# Altium footprint library SamacSys.PcbLib: 10 footprints
Each footprint in its own frame and in the unit in brackets; x right, y up, seen from the top. Pads: shape width x height; smd on the part's side, far side on the other; paste and mask are expansions set on the pad; w line width, h text height; cw(c..) or ccw(c..) is an arc to the next point about the centre after c.
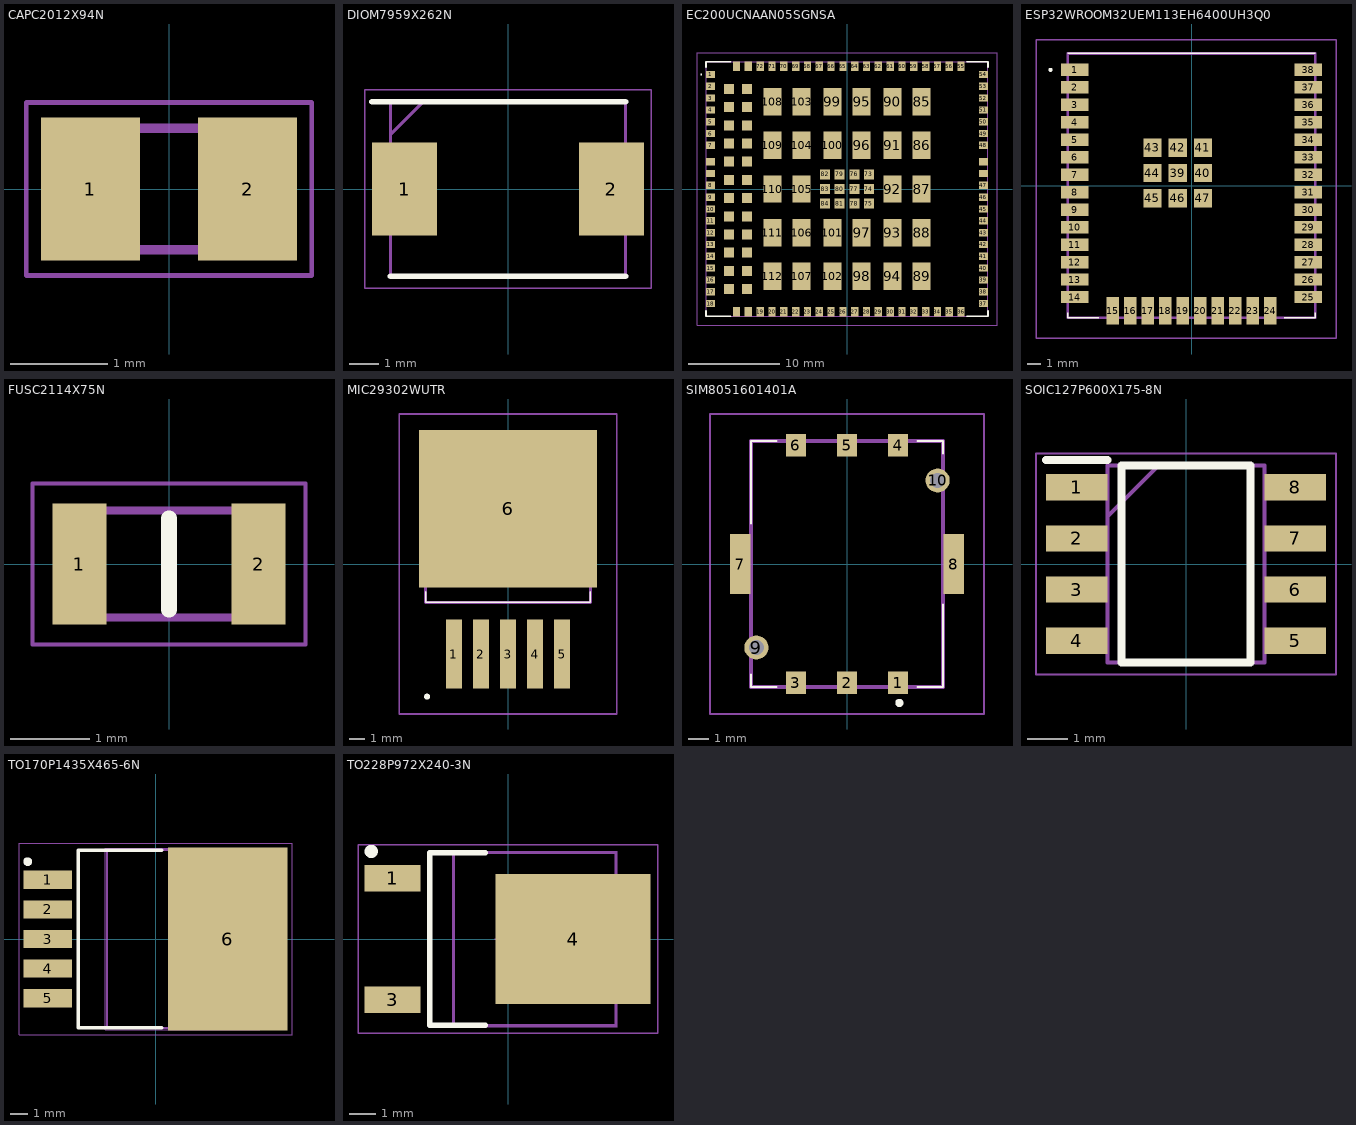
[diagram p0: the footprints below, top view; thin cyan lines are the x and y axes]

## CAPC2012X94N [mm]
pads (2):
  rect 1.02x1.47 smd: 1(-0.81,0) 2(0.81,0)
Mechanical 13:
  lines w0.1: -1.005,-0.625 1.005,-0.625 1.005,0.625 -1.005,0.625 -1.005,-0.625
Mechanical 15:
  lines w0.05: -1.47,-0.89 1.47,-0.89 1.47,0.89 -1.47,0.89 -1.47,-0.89
3D body "08055A150JAT2A.stp": height 0.94, standoff 0, extent -1.005,-0.625 1.005,0.625

## DIOM7959X262N [mm]
pads (2):
  rect 2.2x3.15 smd: 1(-3.5,0) 2(3.5,0)
Top Overlay:
  lines w0.2: -4.6,2.952 3.97,2.952 ; -3.97,-2.952 3.97,-2.952
Mechanical 13:
  lines w0.1: -3.97,1.852 -2.87,2.952 ; -3.97,-2.952 -3.97,2.952 3.97,2.952 3.97,-2.952 -3.97,-2.952
Mechanical 15:
  lines w0.05: -4.85,-3.36 -4.85,3.36 4.85,3.36 4.85,-3.36 -4.85,-3.36
3D body "SS34+.stp": height 2.62, standoff 0, extent -3.97,-2.953 3.97,2.953

## EC200UCNAAN05SGNSA [mm]
pads (144):
  rect 1x0.8 smd: 1(-15,12.6) 2(-15,11.3) 3(-15,10) 4(-15,8.7) 5(-15,7.4) 6(-15,6.1) 7(-15,4.8) 8(-15,0.4) 9(-15,-0.9) 10(-15,-2.2) 11(-15,-3.5) 12(-15,-4.8) 13(-15,-6.1) 14(-15,-7.4) 15(-15,-8.7) 16(-15,-10) 17(-15,-11.3) 18(-15,-12.6) 37(15,-12.6) 38(15,-11.3) 39(15,-10) 40(15,-8.7) 41(15,-7.4) 42(15,-6.1) 43(15,-4.8) 44(15,-3.5) 45(15,-2.2) 46(15,-0.9) 47(15,0.4) 48(15,4.8) 49(15,6.1) 50(15,7.4) 51(15,8.7) 52(15,10) 53(15,11.3) 54(15,12.6) 141(-15,3) 142(-15,1.7) 143(15,1.7) 144(15,3)
  rect 0.8x1 smd: 19(-9.55,-13.5) 20(-8.25,-13.5) 21(-6.95,-13.5) 22(-5.65,-13.5) 23(-4.35,-13.5) 24(-3.05,-13.5) 25(-1.75,-13.5) 26(-0.45,-13.5) 27(0.85,-13.5) 28(2.15,-13.5) 29(3.45,-13.5) 30(4.75,-13.5) 31(6.05,-13.5) 32(7.35,-13.5) 33(8.65,-13.5) 34(9.95,-13.5) 35(11.25,-13.5) 36(12.55,-13.5) 55(12.55,13.5) 56(11.25,13.5) 57(9.95,13.5) 58(8.65,13.5) 59(7.35,13.5) 60(6.05,13.5) 61(4.75,13.5) 62(3.45,13.5) 63(2.15,13.5) 64(0.85,13.5) 65(-0.45,13.5) 66(-1.75,13.5) 67(-3.05,13.5) 68(-4.35,13.5) 69(-5.65,13.5) 70(-6.95,13.5) 71(-8.25,13.5) 72(-9.55,13.5) 113(-10.85,13.5) 114(-12.15,13.5) 115(-10.85,-13.5) 116(-12.15,-13.5)
  rect 1.1x1.1 smd: 73(2.4,1.6) 74(2.4,0) 75(2.4,-1.6) 76(0.8,1.6) 77(0.8,0) 78(0.8,-1.6) 79(-0.8,1.6) 80(-0.8,0) 81(-0.8,-1.6) 82(-2.4,1.6) 83(-2.4,0) 84(-2.4,-1.6) 117(-11,11) 118(-11,9) 119(-11,7) 120(-11,5) 121(-11,3) 122(-11,1) 123(-11,-1) 124(-11,-3) 125(-11,-5) 126(-11,-7) 127(-11,-9) 128(-11,-11) 129(-13,11) 130(-13,9) 131(-13,7) 132(-13,5) 133(-13,3) 134(-13,1) 135(-13,-1) 136(-13,-3) 137(-13,-5) 138(-13,-7) 139(-13,-9) 140(-13,-11)
  rect 2x3 smd: 85(8.2,9.6) 86(8.2,4.8) 87(8.2,0) 88(8.2,-4.8) 89(8.2,-9.6) 90(5,9.6) 91(5,4.8) 92(5,0) 93(5,-4.8) 94(5,-9.6) 95(1.6,9.6) 96(1.6,4.8) 97(1.6,-4.8) 98(1.6,-9.6) 99(-1.6,9.6) 100(-1.6,4.8) 101(-1.6,-4.8) 102(-1.6,-9.6) 103(-5,9.6) 104(-5,4.8) 105(-5,0) 106(-5,-4.8) 107(-5,-9.6) 108(-8.2,9.6) 109(-8.2,4.8) 110(-8.2,0) 111(-8.2,-4.8) 112(-8.2,-9.6)
Top Overlay:
  lines w0.1: -16.1,12.6 cw(c-16.05,12.6) -16,12.6 cw(c-16.05,12.6) -16.1,12.6
  lines w0.2: -15.5,-13.4 -15.5,-14 -12.8,-14 ; -15.5,13.4 -15.5,14 -12.8,14 ; 13.2,-14 15.5,-14 15.5,-13.4 ; 13.2,14 15.5,14 15.5,13.4
Mechanical 13:
  lines w0.1: -15.5,-14 15.5,-14 15.5,14 -15.5,14 -15.5,-14
Mechanical 15:
  lines w0.1: -16.5,-15 -16.5,15 16.5,15 16.5,-15 -16.5,-15
3D body "EC200UCNAA-N05-SGNSA.stp": height 2.7, standoff 0, extent -15.5,-14 15.5,14

## ESP32WROOM32UEM113EH6400UH3Q0 [mm]
pads (47):
  rect 2x0.9 smd: 1(-8.5,8.41) 2(-8.5,7.14) 3(-8.5,5.87) 4(-8.5,4.6) 5(-8.5,3.33) 6(-8.5,2.06) 7(-8.5,0.79) 8(-8.5,-0.48) 9(-8.5,-1.75) 10(-8.5,-3.02) 11(-8.5,-4.29) 12(-8.5,-5.56) 13(-8.5,-6.83) 14(-8.5,-8.1) 25(8.5,-8.1) 26(8.5,-6.83) 27(8.5,-5.56) 28(8.5,-4.29) 29(8.5,-3.02) 30(8.5,-1.75) 31(8.5,-0.48) 32(8.5,0.79) 33(8.5,2.06) 34(8.5,3.33) 35(8.5,4.6) 36(8.5,5.87) 37(8.5,7.14) 38(8.5,8.41)
  rect 0.9x2 smd: 15(-5.715,-9.1) 16(-4.445,-9.1) 17(-3.175,-9.1) 18(-1.905,-9.1) 19(-0.635,-9.1) 20(0.635,-9.1) 21(1.905,-9.1) 22(3.175,-9.1) 23(4.445,-9.1) 24(5.715,-9.1)
  rect 1.33x1.33 smd: 39(-1,0.91) 40(0.835,0.91) 41(0.835,2.745) 42(-1,2.745) 43(-2.835,2.745) 44(-2.835,0.91) 45(-2.835,-0.925) 46(-1,-0.925) 47(0.835,-0.925)
Top Overlay:
  lines w0.1: -9,-9.6 -6.75,-9.6 -9,-9.6 ; -9,-9.6 -9,-9.25 -9,-9.6 ; 9,-9.6 9,-9.25 9,-9.6 ; 9,-9.6 6.75,-9.6 9,-9.6 ; -9,9.6 9,9.6 -9,9.6
  lines w0.2: -10.3,8.41 cw(c-10.25,8.41) -10.2,8.41 ; -10.3,8.41 ccw(c-10.25,8.41) -10.2,8.41 ; -10.3,8.41 cw(c-10.25,8.41) -10.2,8.41
Mechanical 13:
  lines w0.2: -9,-9.6 -9,9.6 9,9.6 9,-9.6 -9,-9.6
Mechanical 15:
  lines w0.1: -11.3,-11.1 -11.3,10.6 10.5,10.6 10.5,-11.1 -11.3,-11.1
3D body "ESP32-WROOM-32UE_M113EH6400UH3Q0_.stp": height 1.6, standoff 1.6, extent 0,3.15 0,3.15

## FUSC2114X75N [mm]
pads (2):
  rect 0.68x1.52 smd: 1(-1.125,0) 2(1.125,0)
Top Overlay:
  lines w0.2: 0,-0.575 0,0.575
Mechanical 13:
  lines w0.1: -1.05,-0.675 -1.05,0.675 1.05,0.675 1.05,-0.675 -1.05,-0.675
Mechanical 15:
  lines w0.05: -1.715,-1.01 -1.715,1.01 1.715,1.01 1.715,-1.01 -1.715,-1.01
3D body "0805L035.stp": height 0.75, standoff 0, extent -1.05,-0.675 1.05,0.675

## MIC29302WUTR [mm]
pads (6):
  rect 1.02x4.318 smd: 1(-3.4,-5.664) 2(-1.7,-5.664) 3(0,-5.664) 4(1.7,-5.664) 5(3.4,-5.664)
  rect 11.176x9.906 smd: 6(0,3.482)
Top Overlay:
  lines w0.1: -5.181,-1.743 -5.181,-2.412 5.181,-2.412 5.181,-1.743
  lines w0.2: -5.001,-8.343 cw(c-5.091,-8.343) -5.181,-8.343 cw(c-5.09,-8.343) -4.999,-8.343
Mechanical 13:
  lines w0.2: -5.181,-2.412 -5.181,6.757 5.181,6.757 5.181,-2.412 -5.181,-2.412
Mechanical 15:
  lines w0.1: -6.842,-9.433 -6.842,9.433 6.842,9.433 6.842,-9.433 -6.842,-9.433
3D body "MIC29302WU-TR.stp": height 4.42, standoff 0, extent -5.029,-7.306 5.029,7.299

## SIM8051601401A [mm]
pads (10):
  rect 1x1.1 smd: 1(2.54,-5.9) 2(0,-5.9) 3(-2.54,-5.9) 4(2.54,5.9) 5(0,5.9) 6(-2.54,5.9)
  rect 1x3 smd: 7(-5.3,0) 8(5.3,0)
  round 1.2 hole 0.75: 9(-4.5,-4.15) 10(4.5,4.15)
Top Overlay:
  lines w0.1: -4.77,-5.5 -4.77,-6.1 -3.5,-6.1 ; -4.77,2 -4.77,6.1 -3.5,6.1 ; 3.5,-6.1 4.77,-6.1 4.77,-2 ; 3.5,6.1 4.77,6.1 4.77,5.5
  lines w0.2: 2.5,-6.9 ccw(c2.6,-6.9) 2.7,-6.9 ccw(c2.6,-6.9) 2.5,-6.9
Mechanical 13:
  lines w0.2: -4.77,-6.1 -4.77,6.1 4.77,6.1 4.77,-6.1 -4.77,-6.1
Mechanical 15:
  lines w0.1: -6.8,-7.45 -6.8,7.45 6.8,7.45 6.8,-7.45 -6.8,-7.45
3D body "SIM8051-6-0-14-01-A.stp": height 1.75, standoff 0, extent -5.42,-6.102 5.42,6.098

## SOIC127P600X175-8N [mm]
pads (8):
  rect 1.525x0.65 smd: 1(-2.712,1.905) 2(-2.712,0.635) 3(-2.712,-0.635) 4(-2.712,-1.905) 5(2.712,-1.905) 6(2.712,-0.635) 7(2.712,0.635) 8(2.712,1.905)
Top Overlay:
  lines w0.2: -3.475,2.58 -1.95,2.58 ; -1.6,-2.45 1.6,-2.45 1.6,2.45 -1.6,2.45 -1.6,-2.45
Mechanical 13:
  lines w0.1: -1.95,1.18 -0.68,2.45 ; -1.95,-2.45 1.95,-2.45 1.95,2.45 -1.95,2.45 -1.95,-2.45
Mechanical 15:
  lines w0.05: -3.725,-2.75 3.725,-2.75 3.725,2.75 -3.725,2.75 -3.725,-2.75
3D body "NE555DR.stp": height 1.75, standoff 0, extent -3,-2.45 3,2.45

## TO170P1435X465-6N [mm]
pads (6):
  rect 2.8x1.05 smd: 1(-6.2,3.4) 2(-6.2,1.7) 3(-6.2,0) 4(-6.2,-1.7) 5(-6.2,-3.4)
  rect 6.85x10.5 smd: 6(4.15,0)
Top Overlay:
  circle w0.25: c-7.35,4.45 r0.125
  lines w0.2: 0.35,-5.1 -4.45,-5.1 -4.45,5.1 0.35,5.1
Mechanical 13:
  lines w0.1: 5.905,-5.112 6.324,-5.112 7.175,-4.17 7.175,4.17 6.324,5.112 5.905,5.112 ; 5.905,-5.112 5.905,5.112 ; 5.905,-5.112 -2.785,-5.112 -2.785,5.112 5.905,5.112
Mechanical 15:
  lines w0.001: -2.885,-5.205 -2.885,5.205 6.005,5.205 6.005,-5.205 -2.885,-5.205
  lines w0.05: -7.85,-5.5 -7.85,5.5 7.85,5.5 7.85,-5.5 -7.85,-5.5
3D body "LM2596S-3.3_NOPB.stp": height 4.72, standoff 0, extent -7.16,-5.08 7.14,5.08

## TO228P972X240-3N [mm]
pads (3):
  rect 2.1x1 smd: 1(-4.35,2.28) 3(-4.35,-2.28)
  rect 5.85x4.9 smd: 4(2.45,0)
Top Overlay:
  circle w0.25: c-5.15,3.3 r0.125
  lines w0.2: -0.85,-3.25 -2.95,-3.25 -2.95,3.25 -0.85,3.25
Mechanical 13:
  lines w0.1: 4.062,-2.35 4.326,-2.35 4.863,-1.756 4.863,1.756 4.327,2.35 4.063,2.35 ; -2.037,-3.25 -2.037,3.25 4.062,3.25 4.062,-3.25 -2.037,-3.25
Mechanical 15:
  circle w0.05: c0,0 r0.35
  lines w0.001: -2.088,-3.3 -2.088,3.3 4.112,3.3 4.112,-3.3 -2.088,-3.3
  lines w0.05: -0.5,0 0.5,0 ; 0,-0.5 0,0.5 ; -5.65,-3.55 -5.65,3.55 5.65,3.55 5.65,-3.55 -5.65,-3.55
3D body "LF33CDT.stp": height 2.3, standoff 0, extent -3.3,-5.966 3.3,3.56